# Altium footprint library NODEMCU_DEVKIT_V1.0.PcbLib: 16 footprints
Each footprint in its own frame and in the unit in brackets; x right, y up, seen from the top. Pads: shape width x height; smd on the part's side, far side on the other; paste and mask are expansions set on the pad; w line width, h text height; cw(c..) or ccw(c..) is an arc to the next point about the centre after c.
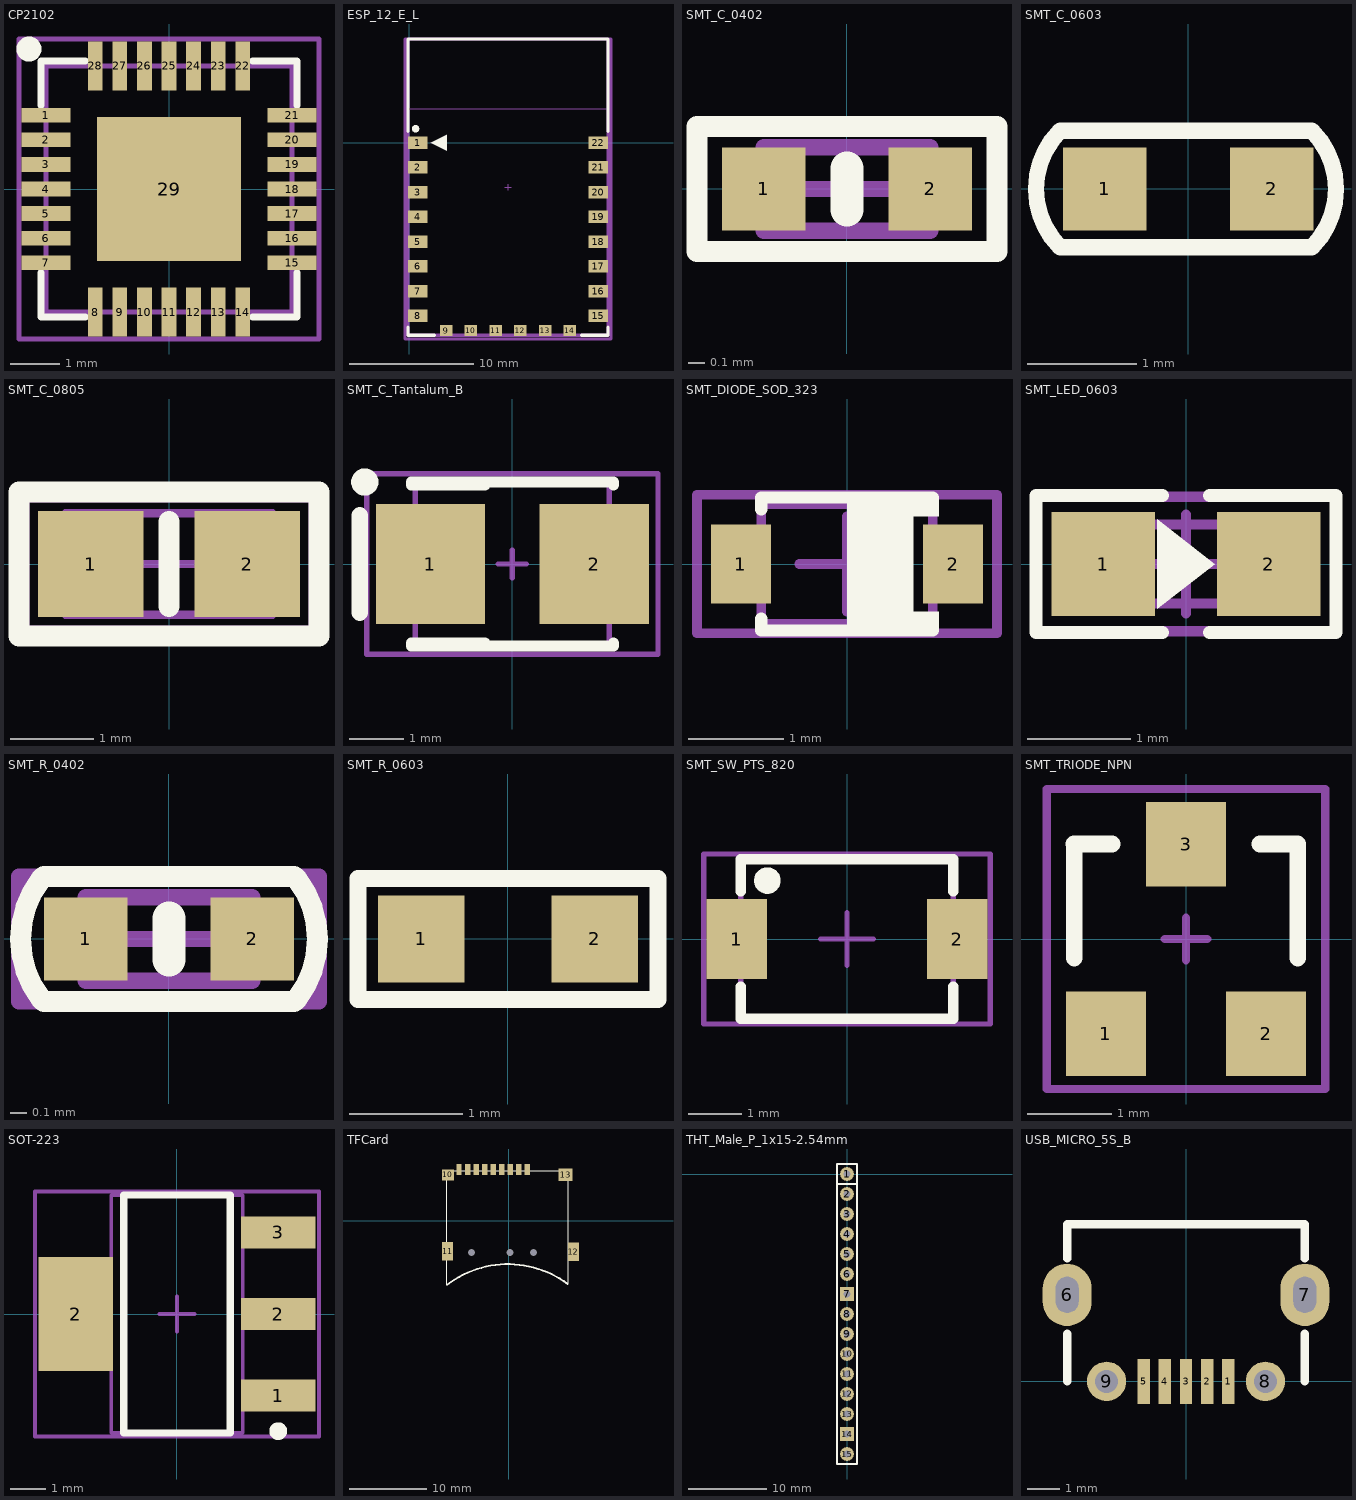
[diagram p0: the footprints below, top view; thin cyan lines are the x and y axes]

## CP2102 [mm] "CP2102"
height 1
pads (29):
  rect 1x0.3 smd: 1(-2.5,1.5) 2(-2.5,1) 3(-2.5,0.5) 4(-2.5,0) 5(-2.5,-0.5) 6(-2.5,-1) 7(-2.5,-1.5) 15(2.5,-1.5) 16(2.5,-1) 17(2.5,-0.5) 18(2.5,0) 19(2.5,0.5) 20(2.5,1) 21(2.5,1.5)
  rect 0.3x1 smd: 8(-1.5,-2.5) 9(-1,-2.5) 10(-0.5,-2.5) 11(0,-2.5) 12(0.5,-2.5) 13(1,-2.5) 14(1.5,-2.5) 22(1.5,2.5) 23(1,2.5) 24(0.5,2.5) 25(0,2.5) 26(-0.5,2.5) 27(-1,2.5) 28(-1.5,2.5)
  rect 2.921x2.921 smd paste-3.2: 29(0,0)
Top Overlay:
  circle w0.254: c-2.844,2.844 r0.127
  lines w0.15: -2.6,-1.7 -2.6,-2.6 -1.7,-2.6 ; -2.6,1.7 -2.6,2.6 ; -2.591,2.6 -1.7,2.6 ; 1.7,-2.6 2.6,-2.6 2.6,-1.7 ; 1.7,2.6 2.6,2.6 2.6,1.7
Top Paste:
  region: 1.524,-0.381 1.524,0.381 0.762,0.381 0.762,-0.381
  region: -0.762,-0.381 -0.762,0.381 -1.524,0.381 -1.524,-0.381
  region: 0.381,-0.381 0.381,0.381 -0.381,0.381 -0.381,-0.381
  region: 1.524,-1.524 1.524,-0.762 0.762,-0.762 0.762,-1.524
  region: 0.381,-1.524 0.381,-0.762 -0.381,-0.762 -0.381,-1.524
  region: -1.524,-1.524 -0.762,-1.524 -0.762,-0.762 -1.524,-0.762
  region: -1.524,0.762 -0.762,0.762 -0.762,1.524 -1.524,1.524
  region: -0.381,1.524 -0.381,0.762 0.381,0.762 0.381,1.524
  region: 0.762,1.524 0.762,0.762 1.524,0.762 1.524,1.524
Mechanical 13:
  lines w0.1: -2.5,-2.5 2.5,-2.5 2.5,2.5 -2.5,2.5 -2.5,-2.5
Mechanical 15:
  lines w0.1: -0.5,0 0.5,0 ; 0,-0.5 0,0.5 ; -3.048,-3.048 3.048,-3.048 3.048,3.048 -3.048,3.048 -3.048,-3.048
3D body: height 1, standoff 0, extent -2.5,-2.5 2.5,2.5

## ESP_12_E_L [mm] "ESP-12 Wi-Fi Module by AI-Thinker"
height 3.2
pads (22):
  rect 1.6x1 smd: 1(0.7,0) 2(0.7,-2) 3(0.7,-4) 4(0.7,-6) 5(0.7,-8) 6(0.7,-10) 7(0.7,-12) 8(0.7,-14) 15(15.3,-14) 16(15.3,-12) 17(15.3,-10) 18(15.3,-8) 19(15.3,-6) 20(15.3,-4) 21(15.3,-2) 22(15.3,0)
  rect 1x0.9 smd: 9(3,-15.2) 10(5,-15.2) 11(7,-15.2) 12(9,-15.2) 13(11,-15.2) 14(13,-15.2)
Top Overlay:
  circle w0.3: c0.525,1.125 r0.15
  region: 1.77,0 3.04,-0.635 3.04,0.635
  lines w0.254: -0.084,-14.916 -0.084,-15.568 2.068,-15.568 ; -0.084,0.916 -0.084,8.371 16.084,8.371 16.084,0.916 ; 13.932,-15.568 16.084,-15.568 16.084,-14.916
Mechanical 13:
  lines w0.051: -0.127,2.727 -0.127,8.382 16.129,8.382 16.129,2.727 -0.127,2.727
  lines w0.254: -0.084,-15.568 16.084,-15.568 16.084,8.371 -0.084,8.371 -0.084,-15.568
  text "CUTOUT POLYGON" at 1.499,7.315 h0.25
  text "ANTENNA AREA" at 1.499,7.823 h0.25
Mechanical 15:
  lines w0.1: 7.746,-3.598 8.254,-3.598 ; 8,-3.852 8,-3.344
  lines w0.254: -0.325,-15.875 -0.325,8.371 16.325,8.371 16.325,-15.875 -0.325,-15.875
3D body: height 2.75, standoff 0.04, extent 0.001,-15.491 16.001,8.509

## SMT_C_0402 [mil] "Surface mount capacitor 0402"
height 11.81
pads (2):
  rect 20x20 smd: 1(-20,0) 2(20,0)
Top Overlay:
  lines w5: -36,-15 36,-15 36,15 -36,15 -36,-15
  lines w8: 0,-5 0,5
Mechanical 13:
  lines w3.94: -20,-10 20,-10 20,10 -20,10 -20,-10
Mechanical 15:
  lines w3.94: -10,0 10,0 ; 0,-10 0,10 ; -36,-15 36,-15 36,15 -36,15 -36,-15
3D body: height 20.1, standoff 0, extent -20,-10 20,10

## SMT_C_0603 [mil]
pads (2):
  rect 30x30 smd: 1(-30,0) 2(30,0)
Top Overlay:
  lines w5.91: -46.09,-21 cw(c-25.09,0) -46.09,21 ; 44.46,-21 ccw(c23.46,0) 44.46,21
  lines w6: -46.09,-21 44.46,-21 ; -46.09,21 44.46,21
3D body: height 30.75, standoff 0.75, extent -28.84,-15.18 31.16,14.82

## SMT_C_0805 [mil] "Surface mount capacitor 0805"
height 70
pads (2):
  rect 50x50 smd: 1(-37,0) 2(37,0)
Top Overlay:
  lines w10: 0,-20 0,20 ; -71,-34 -71,34 71,34 71,-34 -71,-34
Mechanical 13:
  lines w3.94: -49,-24 -49,24 49,24 49,-24 -49,-24
Mechanical 15:
  lines w3.94: -19.68,0 19.69,0 ; 0,-19.69 0,19.68 ; -68,-31 68,-31 68,31 -68,31 -68,-31
3D body: height 31.1, standoff 0, extent -49.37,-24.5 49.38,24.5

## SMT_C_Tantalum_B [mm] "Capacitor, SM Tantalum; Body 3.5 x 2.8 mm (LxW typ)"
height 2.1
pads (2):
  rect 2x2.2 smd: 1(-1.5,0) 2(1.5,0)
Top Overlay:
  circle w0.25: c-2.7,1.5 r0.125
  lines w0.2: -1.85,-1.5 1.85,-1.5 1.85,-1.45 ; -1.85,-1.45 -0.5,-1.45 ; -1.85,1.45 -0.5,1.45 ; -1.85,1.5 1.85,1.5 1.85,1.45
  lines w0.305: -2.794,-0.889 -2.794,0.889
Mechanical 13:
  lines w0.1: -1.778,-1.524 -1.778,1.524 1.778,1.524 1.778,-1.524 -1.778,-1.524
Mechanical 15:
  lines w0.1: -0.254,0 0.254,0 ; 0,-0.254 0,0.254 ; -2.667,-1.651 2.667,-1.651 2.667,1.651 -2.667,1.651 -2.667,-1.651
3D body: height 1.9, standoff 0, extent -1.75,-1.403 1.75,1.397

## SMT_DIODE_SOD_323 [mm] "SOD-323(0805) Package"
height 1.15
pads (2):
  rect 0.63x0.83 smd: 1(-1.115,0) 2(1.115,0)
Top Overlay:
  rectangle: 0.413,-0.7 0.963,-0.5
  rectangle: 0.413,0.5 0.963,0.7
  rectangle: 0,-0.7 0.7,0.7
  lines w0.127: -0.9,-0.575 -0.9,-0.7 0.9,-0.7 0.9,-0.575 ; -0.9,0.575 -0.9,0.7 0.9,0.7 0.9,0.575
Mechanical 13:
  lines w0.1: -0.9,-0.625 0.9,-0.625 0.9,0.625 -0.9,0.625 -0.9,-0.625
Mechanical 15:
  lines w0.1: -0.5,0 0.5,0 ; 0,-0.5 0,0.5 ; -1.575,-0.725 -1.575,0.725 1.575,0.725 1.575,-0.725 -1.575,-0.725
3D body: height 1.1, standoff 0, extent -1.35,-0.625 1.35,0.625

## SMT_LED_0603 [mm] "SMT LED"
height 0.85
pads (2):
  rect 1x1 smd: 1(-0.8,0) 2(0.8,0)
Top Overlay:
  region: -0.279,0.432 0.279,0 -0.279,-0.432
  lines w0.127: -0.229,-0.66 -1.448,-0.66 -1.448,0.66 -0.229,0.66 ; 0.229,-0.66 1.448,-0.66 1.448,0.66 0.229,0.66
Mechanical 13:
  lines w0.1: -1.016,-0.381 1.016,-0.381 1.016,0.381 -1.016,0.381 -1.016,-0.381
Mechanical 15:
  lines w0.1: -0.475,0 0.475,0 ; 0,-0.475 0,0.475 ; -1.448,-0.65 1.448,-0.65 1.448,0.65 -1.448,0.65 -1.448,-0.65
3D body: height 0.6, standoff 0, extent -0.81,-0.4 0.81,0.4

## SMT_R_0402 [mil] "Surface mount resistor 0402"
height 11.81
pads (2):
  rect 20x20 smd: 1(-20,0) 2(20,0)
Top Overlay:
  lines w5: -30.54,-14.64 cw(c-12,0) -30.54,14.64 ; -30,-15 30,-15 ; -30,15 30,15 ; 30.54,-14.64 ccw(c12,0) 30.54,14.64
  lines w8: 0,-5 0,5
Mechanical 13:
  lines w3.94: -20,-10 20,-10 20,10 -20,10 -20,-10
Mechanical 15:
  lines w3.94: -10,0 10,0 ; 0,-10 0,10 ; -36,-15 36,-15 36,15 -36,15 -36,-15
3D body: height 20.1, standoff 0, extent -20,-10 20,10

## SMT_R_0603 [mil]
pads (2):
  rect 30x30 smd: 1(-30,0) 2(30,0)
Top Overlay:
  lines w6: -52,-21 -52,21 52,21 52,-21 -52,-21
3D body: height 30.75, standoff 0.75, extent -28.84,-15.18 31.16,14.82

## SMT_SW_PTS_820 [mm] "SMT Tactile ?Switch PTS 820 Series"
height 2
pads (4):
  rect 1.143x1.5 smd: 1(-2.075,0) 2(2.075,0)
  round 0 all layers, no hole paste-2.54 mask-2.54: MH1(0,0.9) MH2(0,-0.9)
Top Overlay:
  circle w0.25: c-1.5,1.1 r0.125
  lines w0.2: -2,-0.9 -2,-1.5 2,-1.5 2,-0.9 ; -2,0.9 -2,1.5 2,1.5 2,0.9
Mechanical 13:
  lines w0.1: -2,-1.5 -2,1.5 2,1.5 2,-1.5 -2,-1.5
Mechanical 15:
  lines w0.1: -0.5,0 0.5,0 ; 0,-0.5 0,0.5 ; -2.7,-1.6 -2.7,1.6 2.7,1.6 2.7,-1.6 -2.7,-1.6
3D body: height 2.05, standoff -0.5, extent -2.25,-1.55 2.25,1.55

## SMT_TRIODE_NPN [mm] "Surface mount NPN transistor, package SOT-23"
height 1.1
pads (3):
  rect 0.95x1 smd: 1(-0.95,-1.125) 2(0.95,-1.125) 3(0,1.125)
Top Overlay:
  lines w0.2: -1.328,1.125 -0.875,1.125 ; -1.325,-0.225 -1.325,1.125 ; 0.875,1.125 1.325,1.125 1.325,-0.225
Mechanical 15:
  lines w0.1: -0.254,0 0.254,0 ; 0,-0.254 0,0.254 ; -1.651,-1.778 -1.651,1.778 1.651,1.778 1.651,-1.778 -1.651,-1.778
3D body: height 1.3, standoff 0, extent -1.448,-1.397 1.452,1.403

## SOT-223 [mm] "3 LEAD SOT-223 PLASTIC PACKAGE"
height 1.8
pads (4):
  rect 2.1x0.9 smd: 1(2.85,-2.3) 2(2.85,0) 3(2.85,2.3)
  rect 2.1x3.2 smd: 2(-2.85,0)
Top Overlay:
  circle w0.25: c2.85,-3.3 r0.125
  lines w0.2: -1.5,-3.35 1.5,-3.35 1.5,3.35 -1.5,3.35 -1.5,-3.35
Mechanical 13:
  lines w0.1: -1.85,-3.35 1.85,-3.35 1.85,3.35 -1.85,3.35 -1.85,-3.35
Mechanical 15:
  lines w0.1: -0.5,0 0.5,0 ; 0,-0.5 0,0.5 ; -4,-3.45 4,-3.45 4,3.45 -4,3.45 -4,-3.45
3D body: height 1.65, standoff 0, extent -3.543,-3.25 3.543,3.25

## TFCard [mm]
pads (16):
  rect 0.7x1.4 smd: 1(2.377,6.636) 2(1.277,6.636) 3(0.177,6.636) 4(-0.923,6.636) 5(-2.023,6.636) 6(-3.123,6.636) 7(-4.223,6.636) 8(-5.323,6.636) 9(-6.423,6.636)
  rect 1.6x1.4 smd: 10(-7.846,5.937)
  rect 1.4x2.4 smd: 11(-7.899,-3.889) 12(8.328,-3.969)
  rect 1.8x1.6 smd: 13(7.327,5.936)
  round 0 hole 0.9: ""(-4.823,-4.064) ""(0.127,-4.064) ""(3.177,-4.064)
Top Overlay:
  lines w0.127: -7.983,-8.268 -7.983,6.438 7.638,6.438 7.638,-8.167
  lines w0.254: -7.927,-8.22 cw(c-0.109,-18.454) 7.587,-8.128

## THT_Male_P_1x15-2.54mm [mil] "THT Male pin header strip 1x15 2.54mm pitch"
height 450
pads (15):
  round 69 hole 35: 1(0,0) 2(0,-100) 3(0,-200) 4(0,-300) 5(0,-400) 6(0,-500) 8(0,-700) 9(0,-800) 10(0,-900) 11(0,-1000) 12(0,-1100) 13(0,-1200) 15(0,-1400)
  rect 69x69 hole 35: 7(0,-600) 14(0,-1300)
Top Overlay:
  lines w7.87: -50,-50 50,-50 ; -50,-1450 -50,50 50,50 50,-1450 -50,-1450
3D body: height 335, standoff -145, extent -57.48,-750 57.48,-650
3D body: height 335, standoff -145, extent -57.48,-850 57.48,-750
3D body: height 335, standoff -145, extent -57.48,-950 57.48,-850
3D body: height 335, standoff -145, extent -57.48,-650 57.48,-550
3D body: height 335, standoff -145, extent -57.48,-550 57.48,-450
3D body: height 335, standoff -145, extent -57.48,-250 57.48,-150
3D body: height 335, standoff -145, extent -57.48,-350 57.48,-250
3D body: height 335, standoff -145, extent -57.48,-450 57.48,-350
3D body: height 335, standoff -145, extent -57.48,-150 57.48,-49.99
3D body: height 335, standoff -145, extent -57.48,-49.99 57.48,50.01
3D body: height 335, standoff -145, extent -57.48,-1049.99 57.48,-950
3D body: height 335, standoff -145, extent -57.48,-1349.99 57.48,-1249.99
3D body: height 335, standoff -145, extent -57.48,-1249.99 57.48,-1149.99
3D body: height 335, standoff -145, extent -57.48,-1149.99 57.48,-1049.99
3D body: height 335, standoff -145, extent -57.48,-1449.99 57.48,-1349.99

## USB_MICRO_5S_B [mil] "USB Micro SMT 5S B"
height 118.11
pads (9):
  rect 15x54 smd: 1(51,0) 2(25.5,0) 3(0,0) 4(-25.5,0) 5(-51,0)
  oval 59.06x74.8 hole 27.56 slot 43.31 at 90 deg: 6(-143,104) 7(143,104)
  round 47.24 hole 27.5: 8(95.5,0) 9(-95.5,0)
Top Overlay:
  lines w10: -142.72,0 -142.72,57.28 ; -142.72,147.72 -142.72,188.98 142.72,188.98 142.72,147.72 ; 142.72,0 142.72,57.28
3D body: height 105.31, standoff -24.61, extent -161.42,-9.33 161.41,204.44